# EAGLE library part LM2576 (library omcPwrSupply)
LM2576 - SIMPLE SWITCHER® 3A Step-Down Voltage Regulator 3.3V, 5V, 12V, 15V, and adjustable output versions Adjustable version output voltage range, 1.23V to 37V (57V for HV version) ±4% max over line and load conditions Guaranteed 3A output current Wide input voltage range, 40V, up to 60V for HV version Requires only 4 external components 52 kHz fixed frequency internal oscillator TTL shutdown capability, low power standby mode High efficiency Uses readily available standard inductors Thermal shutdown and current limit protection P+ Product Enhancement tested Texas Instruments Datasheet <http://www.ti.com/lit/ds/symlink/lm2576.pdf> Reichelt Datasheet <http://cdn-reichelt.de/documents/datenblatt/A200/DS_LM_2576.pdf>
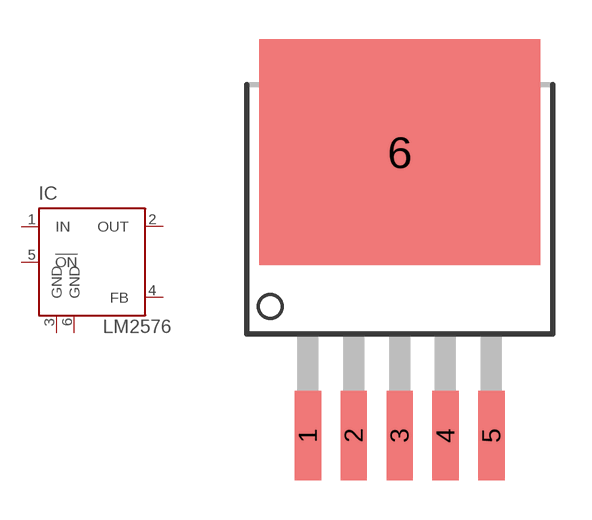
[diagram p3: symbol with the pads of TO263-5; footprint TO263-5]

Designator prefix IC

## LM2576-12S (DIST#REICHELT#: LM 2576 S12; VALUE: LM2576S-12; VENDOR#: Texas Instruments,LM2576SX-12/NOPB), LM2576-5.0S (DIST#REICHELT#: LM 2576 S5,0; VALUE: LM2576S-5.0; VENDOR#: Texas Instruments,LM2576SX-5.0/NOPB), LM2576-ADJS (DIST#REICHELT#: LM 2576 S-ADJ; VALUE: LM2576S-ADJ; VENDOR#: Texas Instruments,LM2576SX-ADJ/NOPB)  [TO263-5]
1  IN  pwr
2  OUT  out
3  GND  pwr
4  FB  pas
5  !ON  pas
6  GND  pwr

## Footprint TO263-5 (pad centres in mm)
TO263 (5-Lead) D2PAK DDPAK KTT SMD 10.16mm×15.24mm Wikipedia <https://en.wikipedia.org/wiki/TO-263> Mechanical <http://focus.ti.com/download/aap/pdf/slyb130_KTT-DesignSummary.pdf>
smd 1 x 3.4: 1 -3.493,-8.255; 2 -1.746,-8.255; 3 0,-8.255; 4 1.746,-8.255; 5 3.493,-8.255
smd 10.7 x 8.6: 6 0,2.54